# EAGLE library part HX711 (library HX711)
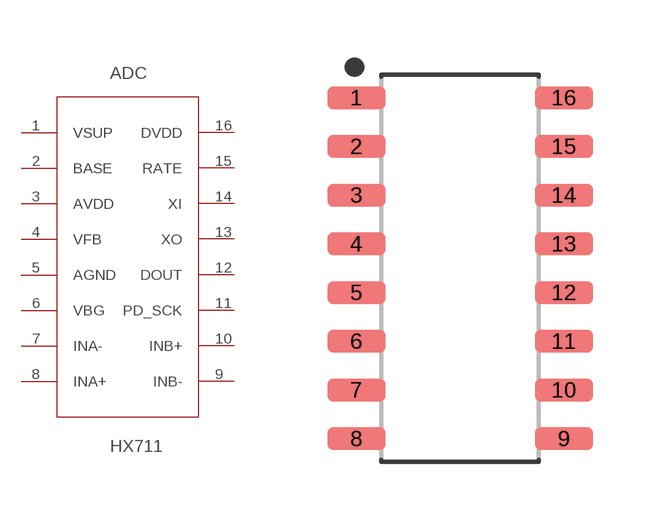
[diagram p0: symbol with the pads of SOIC127P600X140-16N; footprint SOIC127P600X140-16N]

Designator prefix ADC

## HX711SOIC127P600X140-16N  [SOIC127P600X140-16N]
1  VSUP  pwr
2  BASE  pas
3  AVDD  pwr
4  VFB  pas
5  AGND  pas
6  VBG  pas
7  INA-  pas
8  INA+  pas
9  INB-  pas
10  INB+  pas
11  PD_SCK  in
12  DOUT  out
13  XO
14  XI  in
15  RATE  in
16  DVDD  pwr

## Footprint SOIC127P600X140-16N (pad centres in mm)
16-SOIC, 1.27 mm pitch, 6.00 mm span, 9.90 X 3.90 X 1.40 mm body 16-pin SOIC package with 1.27 mm pitch, 6.00 mm span with body size 9.90 X 3.90 X 1.40 mm
smd 1.509 x 0.594: 1 -2.703,4.445; 2 -2.703,3.175; 3 -2.703,1.905; 4 -2.703,0.635; 5 -2.703,-0.635; 6 -2.703,-1.905; 7 -2.703,-3.175; 8 -2.703,-4.445; 9 2.703,-4.445; 10 2.703,-3.175; 11 2.703,-1.905; 12 2.703,-0.635; 13 2.703,0.635; 14 2.703,1.905; 15 2.703,3.175; 16 2.703,4.445